# EAGLE library part BUF634P (library pro3E)
BUFFER AMPLIFIER
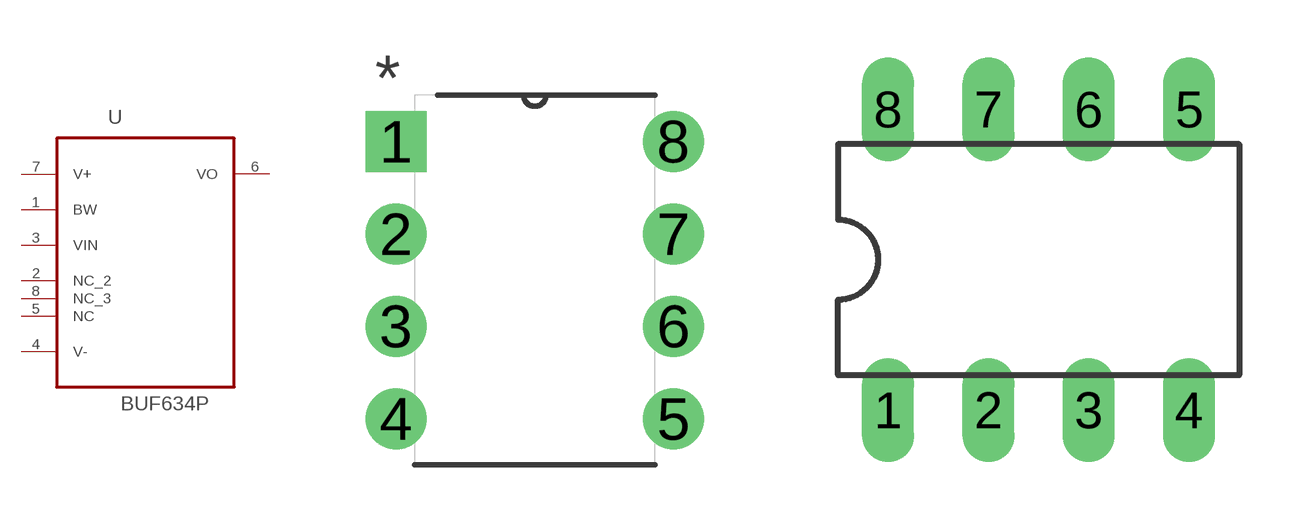
[diagram p7: symbol with the pads of DIP254P762X508-8; footprints DIP254P762X508-8, DIL08]

Designator prefix U

## BUF634P (MPN: BUF634P; OC_FARNELL: 1470343; OC_NEWARK: 80K5714; PACKAGE: PDIP-8; SUPPLIER: Texas Instruments)  [DIP254P762X508-8]
1  BW  pas
2  NC_2  nc
3  VIN  in
4  V-  pwr
5  NC  nc
6  VO  out
7  V+  pwr
8  NC_3  nc

## BUF634PDIL08  [DIL08]
1  BW  pas
2  NC  nc
3  VIN  in
4  V-  pwr
5  NC_2  nc
6  VO  out
7  V+  pwr
8  NC_3  nc

## Footprint DIP254P762X508-8 (pad centres in mm)
drill 1.118 square: 1 -7.62,7.62
drill 1.118: 2 -7.62,5.08; 3 -7.62,2.54; 4 -7.62,0; 5 0,0; 6 0,2.54; 7 0,5.08; 8 0,7.62

## Footprint DIL08 (pad centres in mm)
Dual In Line Package
drill 0.813 long: 1 -3.81,-3.81; 2 -1.27,-3.81; 3 1.27,-3.81; 4 3.81,-3.81; 5 3.81,3.81; 6 1.27,3.81; 7 -1.27,3.81; 8 -3.81,3.81